# Altium footprint library RCDQLY.PCBLIB: 125 footprints (part 2 of 8)
Each footprint in its own frame and in the unit in brackets; x right, y up, seen from the top. Pads: shape width x height; smd on the part's side, far side on the other; paste and mask are expansions set on the pad; w line width, h text height; cw(c..) or ccw(c..) is an arc to the next point about the centre after c.
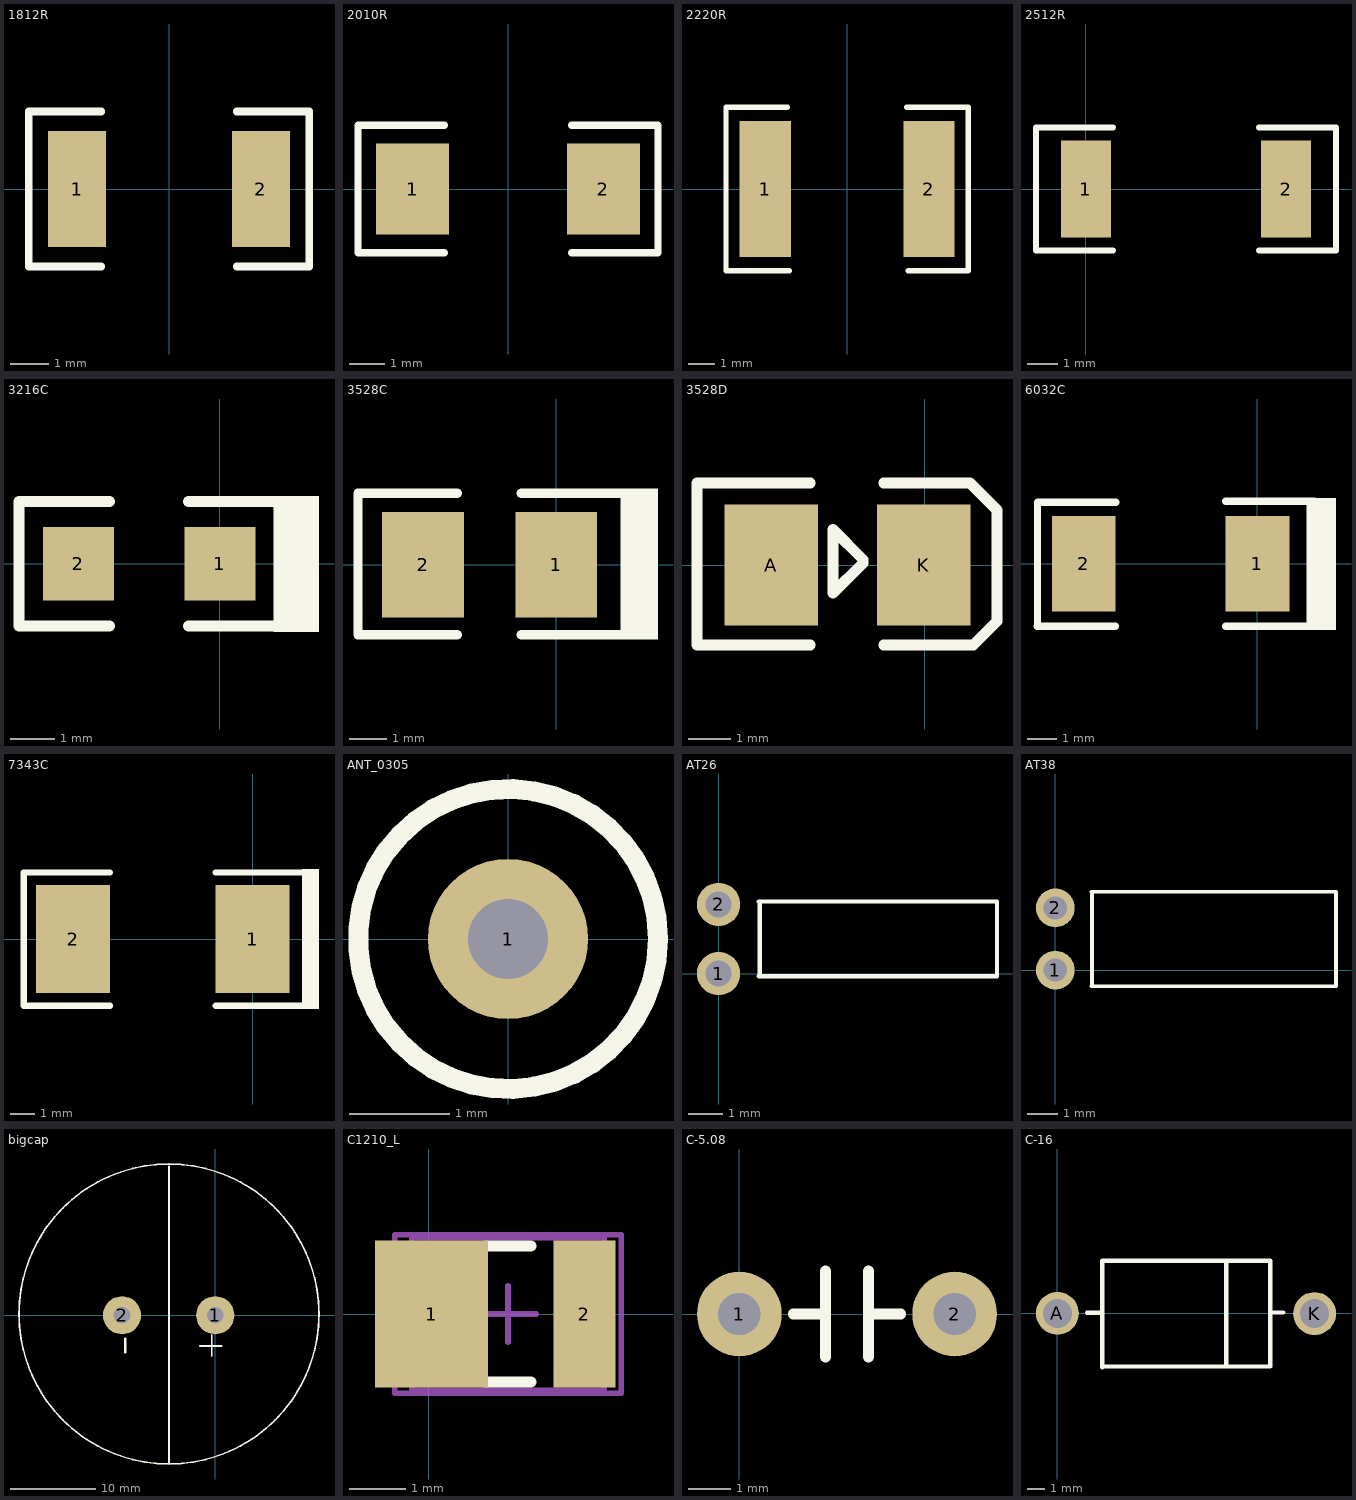
[diagram p1: the footprints below, top view; thin cyan lines are the x and y axes]

## 1812R [mil]
pads (2):
  rect 60x120 smd: 1(-95,0) 2(95,0)
TopOverlay:
  lines w8: -70,-80 -145,-80 -145,80 -70,80 ; 70,-80 145,-80 145,80 70,80

## 2010R [mil]
pads (2):
  rect 80x100 smd: 1(-105,0) 2(105,0)
TopOverlay:
  lines w8: -70,-70 -165,-70 -165,70 -70,70 ; 70,-70 165,-70 165,70 70,70

## 2220R [mil]
pads (2):
  rect 75x200 smd: 1(-120,0) 2(120,0)
TopOverlay:
  lines w8: -87.5,120 -177.5,120 -177.5,-120 -85,-120 ; 87.5,120 177.5,120 177.5,-120 90,-120

## 2512R [mm]
pads (2):
  rect 1.65x3.2 smd: 1(0,0) 2(6.608,0)
TopOverlay:
  lines w0.203: 0.889,-2.032 -1.651,-2.032 -1.651,2.032 -1.27,2.032 0,2.032 0.889,2.032 ; 5.719,-2.032 6.608,-2.032 7.878,-2.032 8.259,-2.032 8.259,2.032 5.719,2.032

## 3216C [mm]
pads (2):
  rect 1.6x1.65 smd: 1(0,0) 2(-3.175,0)
TopOverlay:
  rectangle: 1.206,-1.537 2.222,1.524
  lines w0.254: -2.476,-1.397 -4.508,-1.397 -4.508,1.397 -2.476,1.397 ; -0.699,-1.397 1.206,-1.397 ; -0.699,1.397 1.206,1.397

## 3528C [mm]
pads (2):
  rect 2.2x2.85 smd: 1(0,0) 2(-3.581,0)
TopOverlay:
  rectangle: 1.727,-2.015 2.743,2.057
  lines w0.254: -2.667,-1.88 -5.334,-1.88 -5.334,1.93 -2.667,1.93 ; -0.94,-1.88 1.727,-1.88 ; -0.94,1.93 1.727,1.93

## 3528D [mm]
pads (2):
  rect 2.2x2.85 smd: A(-3.607,0) K(-0.025,0)
TopOverlay:
  lines w0.254: -2.692,-1.88 -5.359,-1.88 -5.359,1.93 -2.692,1.93 ; -0.965,-1.88 1.143,-1.88 1.702,-1.321 1.702,1.295 1.067,1.93 -0.965,1.93 ; -2.159,-0.66 -2.159,0.838 -1.448,0.127 -1.448,0.051 -2.159,-0.66

## 6032C [mm]
pads (2):
  rect 2.2x3.3 smd: 1(0,0) 2(-6,0)
TopOverlay:
  rectangle: 1.699,-2.29 2.715,2.28
  lines w0.254: -7.605,-2.159 -4.905,-2.159 ; -7.6,-2.133 -7.6,2.133 -4.9,2.133 ; -1.095,-2.159 1.831,-2.159 ; -1.095,2.159 1.958,2.159

## 7343C [mm]
pads (2):
  rect 3x4.4 smd: 1(0,0) 2(-7.3,0)
TopOverlay:
  rectangle: 2.008,-2.835 2.7,2.845
  lines w0.254: -5.8,-2.708 -9.308,-2.708 -9.308,2.708 -5.8,2.708 ; -1.5,-2.708 2.008,-2.708 ; -1.5,2.708 2.008,2.708

## ANT_0305 [mm]
pads (1):
  round 1.6 hole 0.8: 1(0,0)
TopOverlay:
  circle w0.2: c0,0 r1.5
3D body: height 5, standoff 0, extent -1.5,-1.5 1.5,1.5

## AT26 [mil]
pads (2):
  round 50 hole 30: 1(0,0) 2(0,80)
TopOverlay:
  rectangle: 44.72,-3.26 50,83.35
  lines w5: 46.49,-3.26 322.08,-3.26 322.08,83.35 46.49,83.35

## AT38 [mil]
pads (2):
  round 50 hole 30: 1(0,0) 2(0,80.31)
TopOverlay:
  rectangle: 44.72,-20.87 50,101.18
  lines w5: 46.49,-20.87 362.2,-20.87 362.2,101.18 46.49,101.18

## bigcap [mm]
pads (2):
  round 4.5 hole 2: 1(0,0) 2(-11,0)
TopOverlay:
  circle w0.203: c-5.46,0.15 r17.7
  lines w0.203: -5.46,-17.45 -5.46,17.55 ; -1.79,-3.625 0.75,-3.625 ; -0.425,-4.84 -0.425,-2.3
  lines w0.254: -10.625,-4.375 -10.625,-2.725

## C1210_L [mm]
pads (2):
  rect 2x2.6 smd: 1(0.047,0)
  rect 1.1x2.6 smd: 2(2.747,0)
TopOverlay:
  lines w0.2: 0.997,-1.2 1.797,-1.2 ; 0.997,1.2 1.797,1.2
Mechanical13:
  lines w0.1: -0.303,-1.35 3.097,-1.35 3.097,1.35 -0.303,1.35 -0.303,-1.35
Mechanical15:
  lines w0.1: 0.897,0 1.897,0 ; 1.397,-0.5 1.397,0.5 ; -0.603,-1.4 3.397,-1.4 3.397,1.4 -0.603,1.4 -0.603,-1.4
3D body: height 1.5, standoff 0, extent -0.303,-1.35 3.097,1.35

## C-5.08 [mm]
pads (2):
  round 2 hole 1: 1(0,0) 2(5.08,0)
TopOverlay:
  lines w0.254: 1.27,0 2.032,0 ; 2.032,-1.016 2.032,1.016 ; 3.048,-1.016 3.048,1.016 ; 3.048,0 3.81,0

## C-16 [mm]
pads (2):
  round 2.5 hole 1.7: A(0,0) K(15,-0.013)
TopOverlay:
  lines w0.254: 1.727,0.025 2.616,0.025 ; 2.616,-3.15 2.616,3.073 12.421,3.073 12.421,-3.099 2.667,-3.099 ; 9.855,-3.099 9.855,3.073 ; 12.421,0.051 13.183,0.051